# Altium footprint library MainPcblib.PcbLib: 316 footprints (part 12 of 20)
Each footprint in its own frame and in the unit in brackets; x right, y up, seen from the top. Pads: shape width x height; smd on the part's side, far side on the other; paste and mask are expansions set on the pad; w line width, h text height; cw(c..) or ccw(c..) is an arc to the next point about the centre after c.
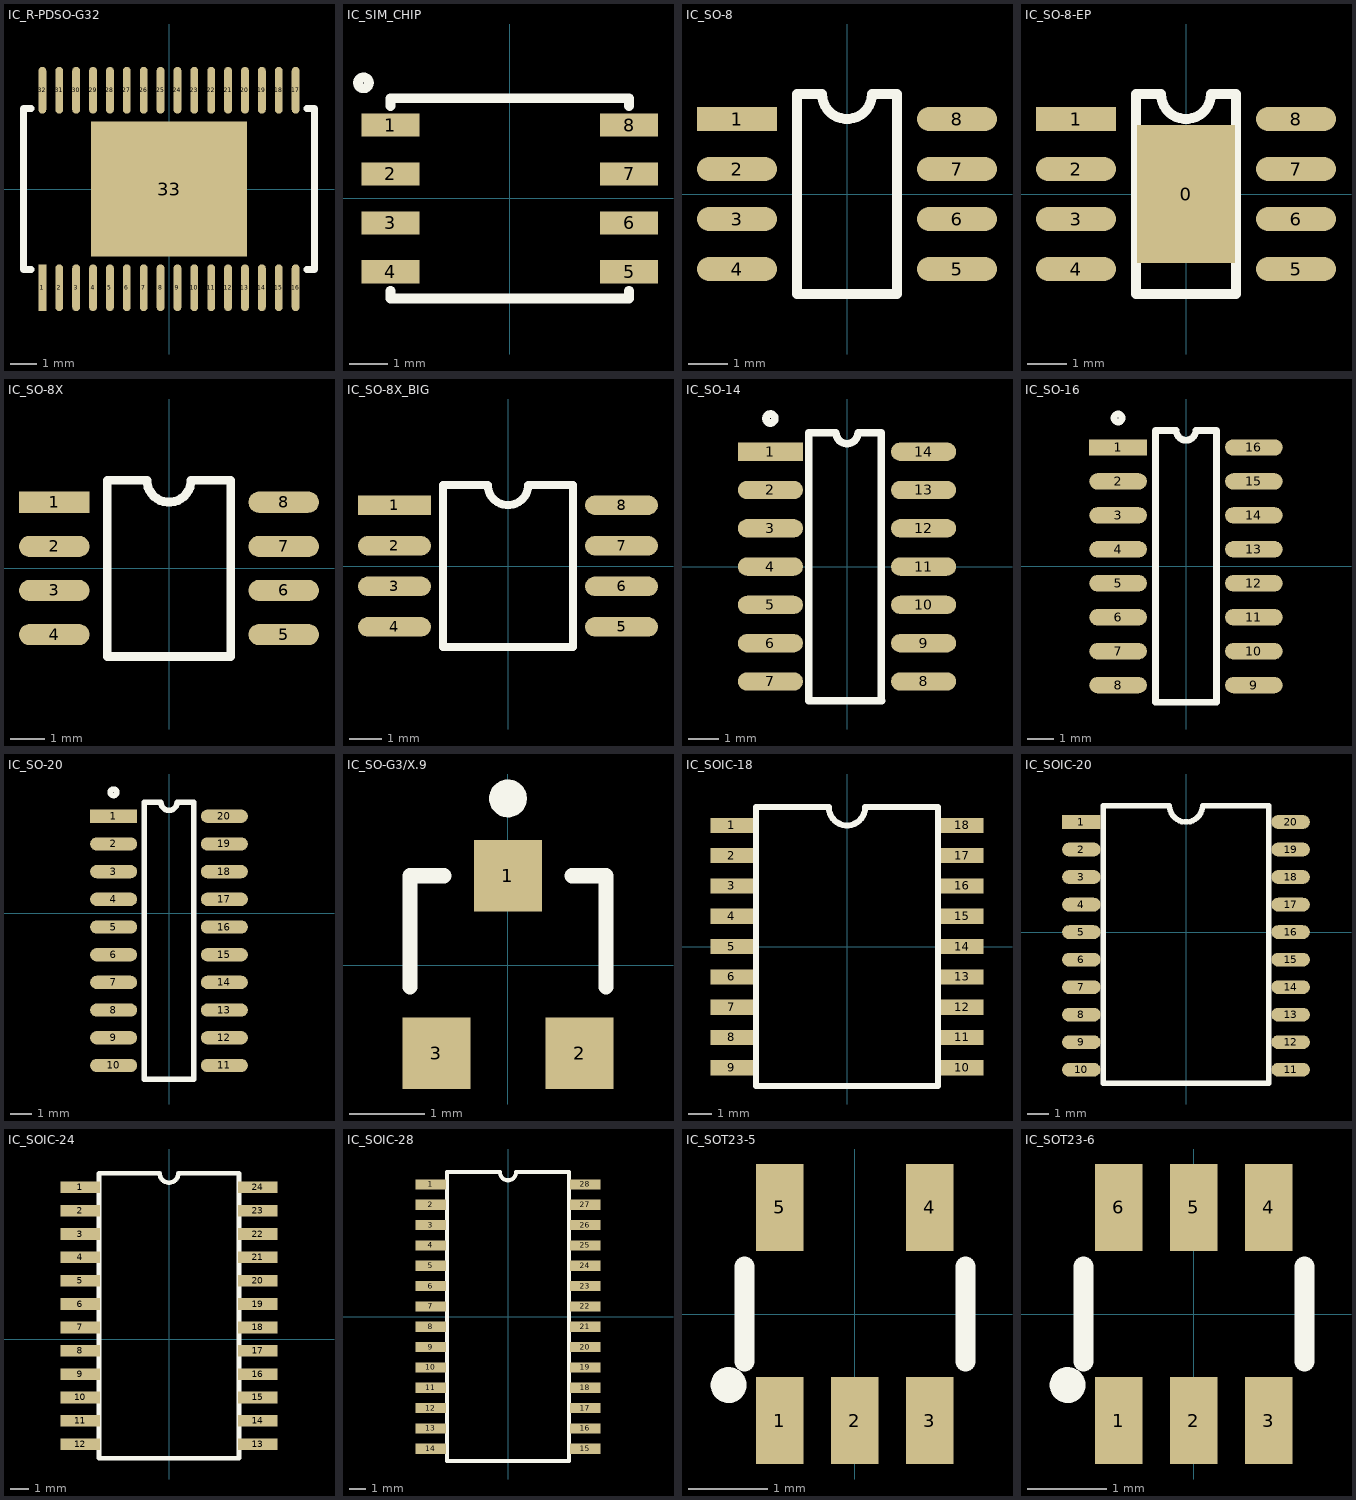
[diagram p11: the footprints below, top view; thin cyan lines are the x and y axes]

## IC_R-PDSO-G32 [mm] "for TPA3118"
pads (33):
  rect 0.3x1.8 smd: 1(-4.875,-3.8)
  oval 0.3x1.8 smd: 2(-4.225,-3.8) 3(-3.575,-3.8) 4(-2.925,-3.8) 5(-2.275,-3.8) 6(-1.625,-3.8) 7(-0.975,-3.8) 8(-0.325,-3.8) 9(0.325,-3.8) 10(0.975,-3.8) 11(1.625,-3.8) 12(2.275,-3.8) 13(2.925,-3.8) 14(3.575,-3.8) 15(4.225,-3.8) 16(4.875,-3.8) 17(4.875,3.8) 18(4.225,3.8) 19(3.575,3.8) 20(2.925,3.8) 21(2.275,3.8) 22(1.625,3.8) 23(0.975,3.8) 24(0.325,3.8) 25(-0.325,3.8) 26(-0.975,3.8) 27(-1.625,3.8) 28(-2.275,3.8) 29(-2.925,3.8) 30(-3.575,3.8) 31(-4.225,3.8) 32(-4.875,3.8)
  rect 6x5.2 smd: 33(0,0)
Top Overlay:
  lines w0.254: -5.3,-3.1 -5.6,-3.1 -5.6,3.1 -5.3,3.1 ; 5.3,-3.1 5.6,-3.1 5.6,3.1 5.3,3.1
Top Solder:
  rectangle: -2.05,-2.2 2.05,2.2

## IC_SIM_CHIP [mm] "M2M SIM Chip"
pads (8):
  rect 1.5x0.6 smd: 1(-3.1,1.905) 2(-3.1,0.635) 3(-3.1,-0.635) 4(-3.1,-1.905) 5(3.1,-1.905) 6(3.1,-0.635) 7(3.1,0.635) 8(3.1,1.905)
Top Overlay:
  circle w0.254: c-3.8,3 r0.141
  lines w0.254: -3.1,-2.4 -3.1,-2.6 3.1,-2.6 3.1,-2.4 ; -3.1,2.4 -3.1,2.6 3.1,2.6 3.1,2.4

## IC_SO-8 [mil]
pads (8):
  rect 80x24 smd: 1(-110,75)
  oval 80x24 smd: 2(-110,25) 3(-110,-25) 4(-110,-75) 5(110,-75) 6(110,-25) 7(110,25) 8(110,75)
Top Overlay:
  lines w10: -50,-100 -50,100 -25,100 ccw(c0,100) 25,100 50,100 50,-100 -50,-100

## IC_SO-8-EP [mil]
pads (9):
  rect 98.43x137.8 smd: 0(0,0)
  rect 80x24 smd: 1(-110,75)
  oval 80x24 smd: 2(-110,25) 3(-110,-25) 4(-110,-75) 5(110,-75) 6(110,-25) 7(110,25) 8(110,75)
Top Overlay:
  lines w10: -50,-100 50,-100 50,100 25,100 cw(c0,100) -25,100 -50,100 -50,-100

## IC_SO-8X [mil]
pads (8):
  rect 80x24 smd: 1(-130,75)
  oval 80x24 smd: 2(-130,25) 3(-130,-25) 4(-130,-75) 5(130,-75) 6(130,-25) 7(130,25) 8(130,75)
Top Overlay:
  lines w10: -70,-100 -70,100 -25,100 ccw(c0,100) 25,100 70,100 70,-100 -70,-100

## IC_SO-8X_BIG [mil]
pads (8):
  rect 90x24 smd: 1(-140,75)
  oval 90x24 smd: 2(-140,25) 3(-140,-25) 4(-140,-75) 5(140,-75) 6(140,-25) 7(140,25) 8(140,75)
Top Overlay:
  lines w10: -80,-100 80,-100 80,100 25,100 cw(c0,100) -25,100 -80,100 -80,-100

## IC_SO-14 [mil]
pads (14):
  rect 85x24 smd: 1(-100,150)
  oval 85x24 smd: 2(-100,100) 3(-100,50) 4(-100,0) 5(-100,-50) 6(-100,-100) 7(-100,-150) 8(100,-150) 9(100,-100) 10(100,-50) 11(100,0) 12(100,50) 13(100,100) 14(100,150)
Top Overlay:
  circle w9.84: c-100,193.31 r5.91
  lines w9.84: -50,-175 -50,175 -15,175 ; -14.44,175 ccw(c0,175) 14.44,175 ; 15,175 45,175 45,-175
  lines w10: -50,-175 45,-175

## IC_SO-16 [mil]
pads (16):
  rect 85x24 smd: 1(-100,175)
  oval 85x24 smd: 2(-100,125) 3(-100,75) 4(-100,25) 5(-100,-25) 6(-100,-75) 7(-100,-125) 8(-100,-175) 9(100,-175) 10(100,-125) 11(100,-75) 12(100,-25) 13(100,25) 14(100,75) 15(100,125) 16(100,175)
Top Overlay:
  circle w9.84: c-100,218.31 r5.91
  lines w9.84: -15,200 -45,200 -45,-200 45,-200 45,200 15,200 ; -14.44,200 ccw(c0,200) 14.44,200

## IC_SO-20 [mil]
pads (20):
  rect 85x24 smd: 1(-100,175)
  oval 85x24 smd: 2(-100,125) 3(-100,75) 4(-100,25) 5(-100,-25) 6(-100,-75) 7(-100,-125) 8(-100,-175) 9(-100,-225) 10(-100,-275) 11(100,-275) 12(100,-225) 13(100,-175) 14(100,-125) 15(100,-75) 16(100,-25) 17(100,25) 18(100,75) 19(100,125) 20(100,175)
Top Overlay:
  circle w9.84: c-100,218.31 r5.91
  lines w9.84: -15,200 -45,200 -45,-300 45,-300 45,200 15,200 ; -14.44,200 ccw(c0,200) 14.44,200

## IC_SO-G3/X.9 [mm]
pads (3):
  rect 0.9x0.95 smd: 1(0.003,1.187) 2(0.953,-1.163) 3(-0.947,-1.163)
Top Overlay:
  circle w0.25: c0.003,2.212 r0.125
  lines w0.2: -1.297,-0.288 -1.297,1.187 -0.847,1.187 ; 0.853,1.187 1.303,1.187 1.303,-0.288

## IC_SOIC-18 [mil] "For PIC18F1x20-SO"
pads (18):
  rect 70x25 smd: 1(-190,200) 2(-190,150) 3(-190,100) 4(-190,50) 5(-190,0) 6(-190,-50) 7(-190,-100) 8(-190,-150) 9(-190,-200) 10(190,-200) 11(190,-150) 12(190,-100) 13(190,-50) 14(190,0) 15(190,50) 16(190,100) 17(190,150) 18(190,200)
Top Overlay:
  lines w10: -150,-230 150,-230 150,230 30,230 cw(c0,230) -30,230 -150,230 -150,-230

## IC_SOIC-20 [mil] "For PIC18F1xK22-SO"
pads (20):
  rect 70x25 smd: 1(-190,200)
  oval 70x25 smd: 2(-190,150) 3(-190,100) 4(-190,50) 5(-190,0) 6(-190,-50) 7(-190,-100) 8(-190,-150) 9(-190,-200) 10(-190,-250) 11(190,-250) 12(190,-200) 13(190,-150) 14(190,-100) 15(190,-50) 16(190,0) 17(190,50) 18(190,100) 19(190,150) 20(190,200)
Top Overlay:
  lines w10: -150,-275 -150,230 -30,230 ccw(c0,230) 30,230 150,230 150,-275 -150,-275

## IC_SOIC-24 [mil] "for A4970"
height 157.48
pads (24):
  rect 85x25 smd: 1(-190,325) 2(-190,275) 3(-190,225) 4(-190,175) 5(-190,125) 6(-190,75) 7(-190,25) 8(-190,-25) 9(-190,-75) 10(-190,-125) 11(-190,-175) 12(-190,-225) 13(190,-225) 14(190,-175) 15(190,-125) 16(190,-75) 17(190,-25) 18(190,25) 19(190,75) 20(190,125) 21(190,175) 22(190,225) 23(190,275) 24(190,325)
Top Overlay:
  lines w10: -150,-255 -150,355 -20,355 ccw(c0,355) 20,355 150,355 150,-255 -150,-255

## IC_SOIC-28 [mil] "for PIC18F2525-SO"
height 157.48
pads (28):
  rect 75x25 smd: 1(-190,325) 2(-190,275) 3(-190,225) 4(-190,175) 5(-190,125) 6(-190,75) 7(-190,25) 8(-190,-25) 9(-190,-75) 10(-190,-125) 11(-190,-175) 12(-190,-225) 13(-190,-275) 14(-190,-325) 15(190,-325) 16(190,-275) 17(190,-225) 18(190,-175) 19(190,-125) 20(190,-75) 21(190,-25) 22(190,25) 23(190,75) 24(190,125) 25(190,175) 26(190,225) 27(190,275) 28(190,325)
Top Overlay:
  lines w10: -150,-355 150,-355 150,355 20,355 cw(c0,355) -20,355 -150,355 -150,-355

## IC_SOT23-5 [mm] "for MCP1802"
pads (5):
  rect 0.6x1.1 smd: 1(-0.95,-1.35) 2(0,-1.35) 3(0.95,-1.35) 4(0.95,1.35) 5(-0.95,1.35)
Top Overlay:
  circle w0.254: c-1.6,-0.9 r0.1
  lines w0.254: -1.4,-0.6 -1.4,0.6 ; 1.4,-0.6 1.4,0.6

## IC_SOT23-6 [mm] "for MCP1640"
pads (6):
  rect 0.6x1.1 smd: 1(-0.95,-1.35) 2(0,-1.35) 3(0.95,-1.35) 4(0.95,1.35) 5(0,1.35) 6(-0.95,1.35)
Top Overlay:
  circle w0.254: c-1.6,-0.9 r0.1
  lines w0.254: -1.4,-0.6 -1.4,0.6 ; 1.4,-0.6 1.4,0.6